# Altium schematic symbol library LIBRAIRIE PROJET.SchLib: 26 symbols
Pins are listed as number, name and electrical type; pins without a type are passive.

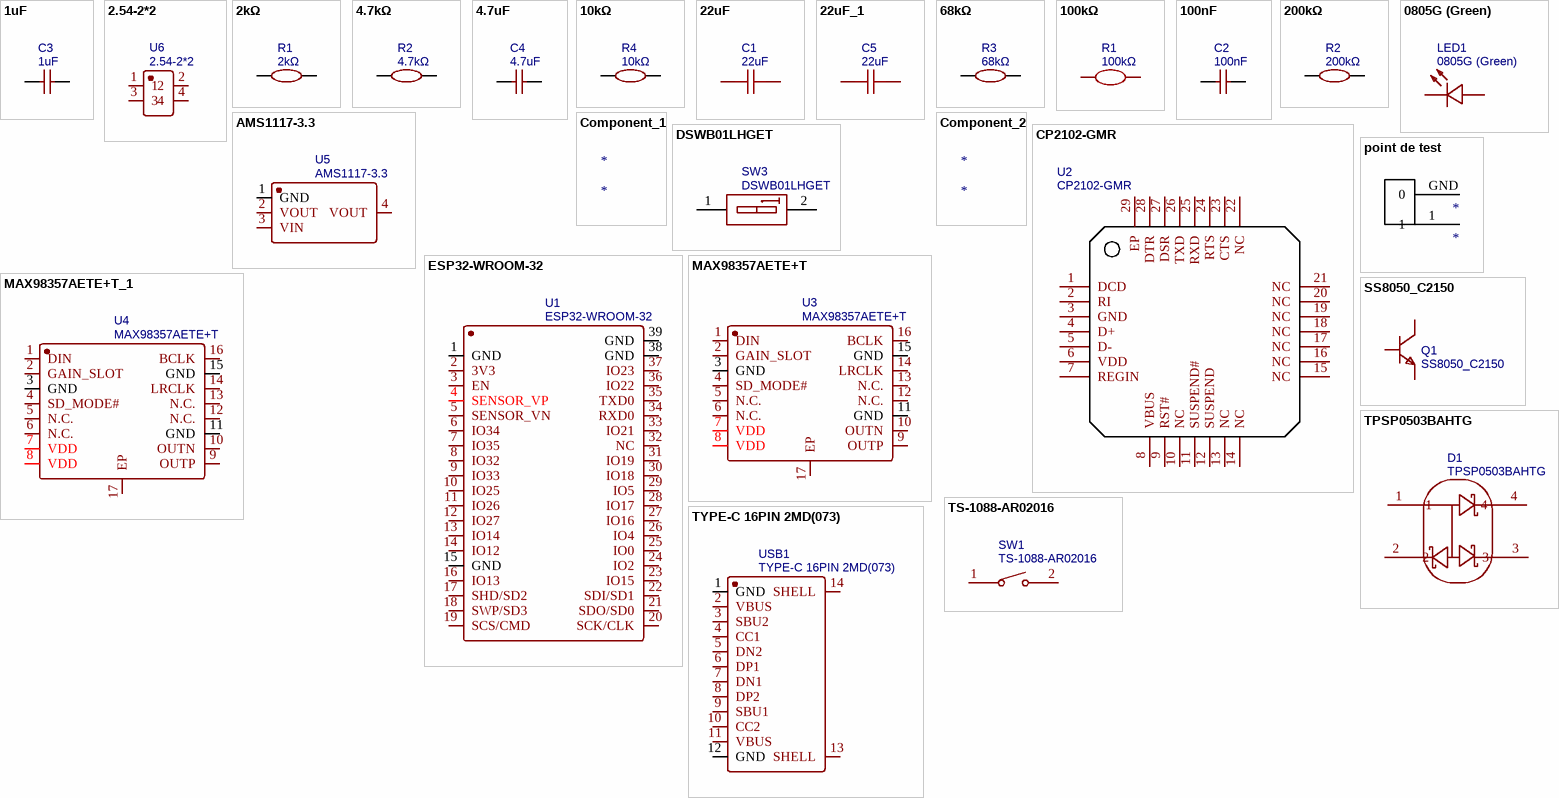
[diagram p0: symbols 1uF to TYPE-C 16PIN 2MD(073)]

## 1uF
designator C3
Manufacturer Part: CL21B105KBFNNNE; Manufacturer: SAMSUNG(三星); nameAlias: Value; Supplier: LCSC; Supplier Part: C28323; JLCPCB Part Class: Basic Part; spicePre: C; spiceSymbolName: CL21B105KBFNNNE
footprint C0805
pins: 1, 2

## 2.54-2*2
designator U6
Manufacturer: ZHOURI(洲日); Contributor: LCSC; Supplier: LCSC; Supplier Part: C2977590; Manufacturer Part: 2.54-2*2; JLCPCB Part Class: Extended Part; spicePre: U; spiceSymbolName: 2.54-2*2
footprint HDR-TH_4P-P2.54-V-F-R2-C2-S2.54
pins: 1, 2, 3, 4

## 2kΩ
designator R1
Manufacturer: UNI-ROYAL(厚声); Manufacturer Part: 0805W8F2001T5E; nameAlias: Value; Supplier: LCSC; Supplier Part: C17604; JLCPCB Part Class: Basic Part; spicePre: R; spiceSymbolName: 0805W8F2001T5E
footprint R0805
pins: 1, 2

## 4.7kΩ
designator R2
Manufacturer: UNI-ROYAL(厚声); Manufacturer Part: 0805W8F4701T5E; nameAlias: Value; Supplier: LCSC; Supplier Part: C17673; JLCPCB Part Class: Basic Part; spicePre: R; spiceSymbolName: 0805W8F4701T5E
footprint R0805
pins: 1, 2

## 4.7uF
designator C4
Manufacturer Part: CL21A475KAQNNNE; Manufacturer: SAMSUNG(三星); nameAlias: Value; Supplier: LCSC; Supplier Part: C1779; JLCPCB Part Class: Basic Part; spicePre: C; spiceSymbolName: CL21A475KAQNNNE
footprint C0805
pins: 1, 2

## 10kΩ
designator R4
Manufacturer: UNI-ROYAL(厚声); Manufacturer Part: 0805W8F1002T5E; nameAlias: Value; Supplier: LCSC; Supplier Part: C17414; JLCPCB Part Class: Basic Part; spicePre: R; spiceSymbolName: 0805W8F1002T5E
footprint R0805
pins: 1, 2

## 22uF
designator C1
Manufacturer: SAMSUNG(三星); Manufacturer Part: CL21A226MAQNNNE; nameAlias: Value; Supplier: LCSC; Supplier Part: C45783; JLCPCB Part Class: Basic Part; spicePre: C; spiceSymbolName: CL21A226MAQNNNE
footprint C0805
pins: 1, 2

## 22uF_1
designator C5, comment 22uF
Manufacturer: SAMSUNG(三星); Manufacturer Part: CL21A226MAYNNNE; nameAlias: Value; Contributor: LCSC; Supplier: LCSC; Supplier Part: C602037; JLCPCB Part Class: Extended Part; spicePre: C; spiceSymbolName: CL21A226MAYNNNE
footprint C0805
pins: 1, 2

## 68kΩ
designator R3
Manufacturer: UNI-ROYAL(厚声); Manufacturer Part: 0805W8F6802T5E; nameAlias: Value; Supplier: LCSC; Supplier Part: C17801; JLCPCB Part Class: Basic Part; spicePre: R; spiceSymbolName: 0805W8F6802T5E
footprint R0805
pins: 1, 2

## 100kΩ
designator R1
Manufacturer: FOJAN(富捷); Manufacturer Part: FRC0805J104 TS; nameAlias: Value; Contributor: lcsc; Supplier: LCSC; Supplier Part: C2907293; JLCPCB Part Class: Extended Part; spicePre: R; spiceSymbolName: FRC0805J104 TS
footprint R0805
pins: 1, 2

## 100nF
designator C2
Manufacturer: FH(风华); Manufacturer Part: 0805B104K500NT; nameAlias: Value; Supplier: LCSC; Supplier Part: C38141; JLCPCB Part Class: Extended Part; spicePre: C; spiceSymbolName: 0805B104K500NT
footprint C0805
pins: 1, 2

## 200kΩ
designator R2
Manufacturer: UNI-ROYAL(厚声); Manufacturer Part: 0805W8F2003T5E; nameAlias: Value; Supplier: LCSC; Supplier Part: C17539; JLCPCB Part Class: Basic Part; spicePre: R; spiceSymbolName: 0805W8F2003T5E
footprint R0805
pins: 1, 2

## 0805G (Green)
designator LED1
Manufacturer: KENTO; Manufacturer Part: KT-0805翠绿; Supplier: LCSC; Supplier Part: C2297; JLCPCB Part Class: Basic Part; spicePre: L; spiceSymbolName: 0805G (Green)
footprint LED0805-R-RD
pins: 1 A, 2 K

## AMS1117-3.3
designator U5
Manufacturer: AMS; sourceId: dwIGgezVh; timeStamp: 1476261164; Supplier: LCSC; Manufacturer Part: AMS1117-3.3; Supplier Part: C6186; JLCPCB Part Class: Basic Part; spicePre: U; spiceSymbolName: AMS1117-3.3
footprint SOT-223-3_L6.5-W3.4-P2.30-LS7.0-BR
pins: 1 GND, 2 VOUT, 3 VIN, 4 VOUT

## Component_1
designator *

## Component_2
designator *

## CP2102-GMR
designator U2
Manufacturer: SKYWORKS/SILICON LABS(芯科); Supplier: LCSC; Manufacturer Part: CP2102-GMR; Supplier Part: C6568; JLCPCB Part Class: Extended Part; spicePre: U; spiceSymbolName: CP2102-GMR
footprint WQFN-28_L5.0-W5.0-P0.50-BL-EP3.2
pins: 1 DCD, 2 RI, 3 GND, 4 D+, 5 D-, 6 VDD, 7 REGIN, 8 VBUS, 9 RST#, 10 NC, 11 SUSPEND#, 12 SUSPEND, 13 NC, 14 NC, 15 NC, 16 NC, 17 NC, 18 NC, 19 NC, 20 NC, 21 NC, 22 NC, 23 CTS, 24 RTS, 25 RXD, 26 TXD, 27 DSR, 28 DTR, 29 EP

## DSWB01LHGET
designator SW3
Manufacturer: YE; Supplier: LCSC; Manufacturer Part: DSWB01LHGET; Supplier Part: C126888; JLCPCB Part Class: Extended Part; spicePre: S; spiceSymbolName: DSWB01LHGET
footprint SW-TH_DSWB01LHGET
pins: 1 A1, 2

## ESP32-WROOM-32
designator U1
Manufacturer: ESPRESSIF(乐鑫); Manufacturer Part: ESP32-WROOM-32-N4; Contributor: LCSC; Supplier: LCSC; Supplier Part: C82899; JLCPCB Part Class: Extended Part; spicePre: U; spiceSymbolName: ESP32-WROOM-32
footprint WIFIM-SMD_ESP32-WROOM-32-N4
pins: 1 GND, 2 3V3, 3 EN, 4 SENSOR_VP, 5 SENSOR_VN, 6 IO34, 7 IO35, 8 IO32, 9 IO33, 10 IO25, 11 IO26, 12 IO27, 13 IO14, 14 IO12, 15 GND, 16 IO13, 17 SHD/SD2, 18 SWP/SD3, 19 SCS/CMD, 20 SCK/CLK, 21 SDO/SD0, 22 SDI/SD1, 23 IO15, 24 IO2, 25 IO0, 26 IO4, 27 IO16, 28 IO17, 29 IO5, 30 IO18, 31 IO19, 32 NC, 33 IO21, 34 RXD0, 35 TXD0, 36 IO22, 37 IO23, 38 GND, 39 GND

## MAX98357AETE+T
designator U3
Manufacturer: ADI(亚德诺)/MAXIM(美信); Contributor: LCSC; Supplier: LCSC; Supplier Part: C910544; Manufacturer Part: MAX98357AETE+T; JLCPCB Part Class: Extended Part; spicePre: U; spiceSymbolName: MAX98357AETE+T
footprint TQFN-16_L3.0-W3.0-P0.50-BL-EP1.5
pins: 1 DIN, 2 GAIN_SLOT, 3 GND, 4 SD_MODE#, 5 N.C., 6 N.C., 7 VDD, 8 VDD, 9 OUTP, 10 OUTN, 11 GND, 12 N.C., 13 N.C., 14 LRCLK, 15 GND, 16 BCLK, 17 EP

## MAX98357AETE+T_1
designator U4, comment MAX98357AETE+T
Manufacturer: ADI(亚德诺)/MAXIM(美信); Contributor: LCSC; Supplier: LCSC; Supplier Part: C910544; Manufacturer Part: MAX98357AETE+T; JLCPCB Part Class: Extended Part; spicePre: U; spiceSymbolName: MAX98357AETE+T
footprint TQFN-16_L3.0-W3.0-P0.50-BL-EP1.5
pins: 1 DIN, 2 GAIN_SLOT, 3 GND, 4 SD_MODE#, 5 N.C., 6 N.C., 7 VDD, 8 VDD, 9 OUTP, 10 OUTN, 11 GND, 12 N.C., 13 N.C., 14 LRCLK, 15 GND, 16 BCLK, 17 EP

## point de test
designator *
pins: 1, GND 0

## SS8050_C2150
designator Q1
Manufacturer: CJ(江苏长电/长晶); Manufacturer Part: SS8050; Supplier: LCSC; Supplier Part: C2150; JLCPCB Part Class: Basic Part; spicePre: Q; spiceSymbolName: SS8050_C2150
footprint SOT-23-3_L2.9-W1.3-P1.90-LS2.4-BR
pins: 1 B, 2 E, 3 C

## TPSP0503BAHTG
designator D1
Manufacturer: TECH PUBLIC(台舟); Contributor: LCSC; Supplier: LCSC; Supplier Part: C2682275; Manufacturer Part: TPSP0503BAHTG; JLCPCB Part Class: Extended Part; spicePre: D; spiceSymbolName: TPSP0503BAHTG
footprint SOT-143-4_L2.9-W1.3-P1.92-LS2.4-BL
pins: 1, 2, 3, 4

## TS-1088-AR02016
designator SW1
Manufacturer: XUNPU(讯普); Contributor: LCSC; Supplier: LCSC; Supplier Part: C720477; Manufacturer Part: TS-1088-AR02016; JLCPCB Part Class: Extended Part; spicePre: S; spiceSymbolName: TS-1088-AR02016
footprint SW-SMD_L3.9-W3.0-P4.45
pins: 1, 2

## TYPE-C 16PIN 2MD(073)
designator USB1
Manufacturer: SHOU HAN(首韩); Contributor: LCSC; Supplier: LCSC; Supplier Part: C2765186; Manufacturer Part: TYPE-C 16PIN 2MD(073); JLCPCB Part Class: Extended Part; spicePre: U; spiceSymbolName: TYPE-C 16PIN 2MD(073)
footprint USB-C-SMD_TYPE-C-6PIN-2MD-073
pins: 1 GND, 2 VBUS, 3 SBU2, 4 CC1, 5 DN2, 6 DP1, 7 DN1, 8 DP2, 9 SBU1, 10 CC2, 11 VBUS, 12 GND, 13 SHELL, 14 SHELL